# EAGLE library part M03X2 (library KwanSystems)
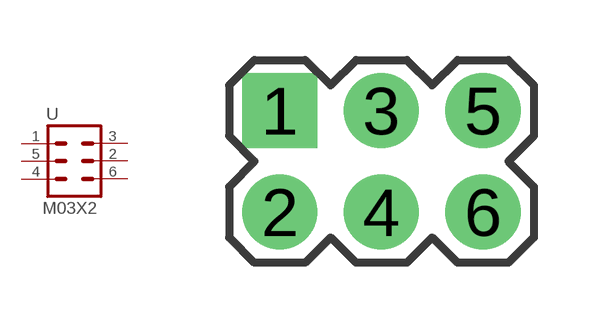
[diagram p26: symbol with the pads of M03X2_PTH; footprint M03X2_PTH]

Designator prefix -

## M03X2  [M03X2_PTH]
1  1  pas
2  4  pas
3  2  pas
4  5  pas
5  3  pas
6  6  pas

## Footprint M03X2_PTH (pad centres in mm)
drill 1.016 pad 1.88 square: 1 0,0
drill 1.016 pad 1.88: 2 0,-2.54; 3 2.54,0; 4 2.54,-2.54; 5 5.08,0; 6 5.08,-2.54